# Altium footprint library Digital IC.PcbLib: 2 footprints
Each footprint in its own frame and in the unit in brackets; x right, y up, seen from the top. Pads: shape width x height; smd on the part's side, far side on the other; paste and mask are expansions set on the pad; w line width, h text height; cw(c..) or ccw(c..) is an arc to the next point about the centre after c.
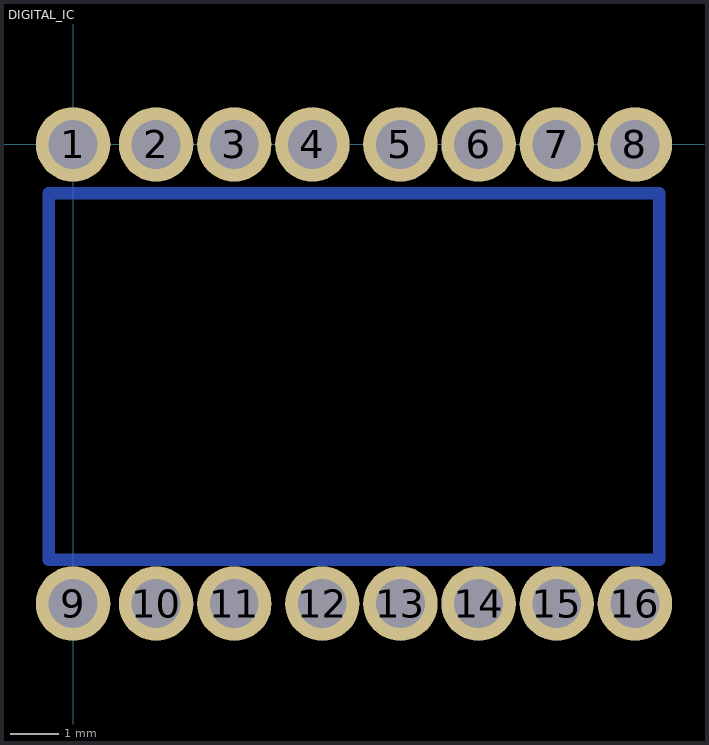
[diagram p0: the footprints below, top view; thin cyan lines are the x and y axes]

## DIGITAL_IC [mm]
pads (16):
  round 1.524 hole 1: 1(0,0) 2(1.7,0) 3(3.3,0) 4(4.9,0) 5(6.7,0) 6(8.3,0) 7(9.9,0) 8(11.5,0) 9(0,-9.4) 10(1.7,-9.4) 11(3.3,-9.4) 12(5.1,-9.4) 13(6.7,-9.4) 14(8.3,-9.4) 15(9.9,-9.4) 16(11.5,-9.4)
Bottom Layer:
  lines w0.254: -0.5,-8.5 12,-8.5 12,-1 11.5,-1 -0.5,-1 -0.5,-8 -0.5,-8.5

## PCBComponent_1 [mil]